# EAGLE library part FTS-105-01-L-D (library tbhb)
CONN HEADER, 1.27MM, THRU HOLE, 10WAY
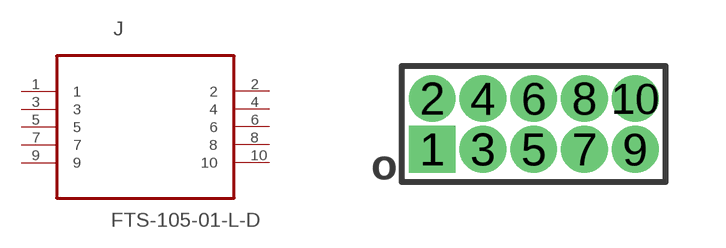
[diagram p2: symbol with the pads of SAMTEC_FTS-105-01-L-D; footprint SAMTEC_FTS-105-01-L-D]

Designator prefix J

## FTS-105-01-L-D (MPN: FTS-105-01-L-D; OC_FARNELL: 1667728; OC_NEWARK: 11P4652; PACKAGE: HEADER, 1.27MM, THRU HOLE, 10WAY; SUPPLIER: Samtec)  [SAMTEC_FTS-105-01-L-D]
1  1  pas
2  2  pas
3  3  pas
4  4  pas
5  5  pas
6  6  pas
7  7  pas
8  8  pas
9  9  pas
10  10  pas

## Footprint SAMTEC_FTS-105-01-L-D (pad centres in mm)
drill 0.66 pad 1.067 square: 1 -5.08,-1.27
drill 0.66 pad 1.067: 2 -5.08,0; 3 -3.81,-1.27; 4 -3.81,0; 5 -2.54,-1.27; 6 -2.54,0; 7 -1.27,-1.27; 8 -1.27,0; 9 0,-1.27; 10 0,0